# Altium footprint library SignalCommunications.PCBLIB: 466 footprints (part 12 of 30)
Each footprint in its own frame and in the unit in brackets; x right, y up, seen from the top. Pads: shape width x height; smd on the part's side, far side on the other; paste and mask are expansions set on the pad; w line width, h text height; cw(c..) or ccw(c..) is an arc to the next point about the centre after c.
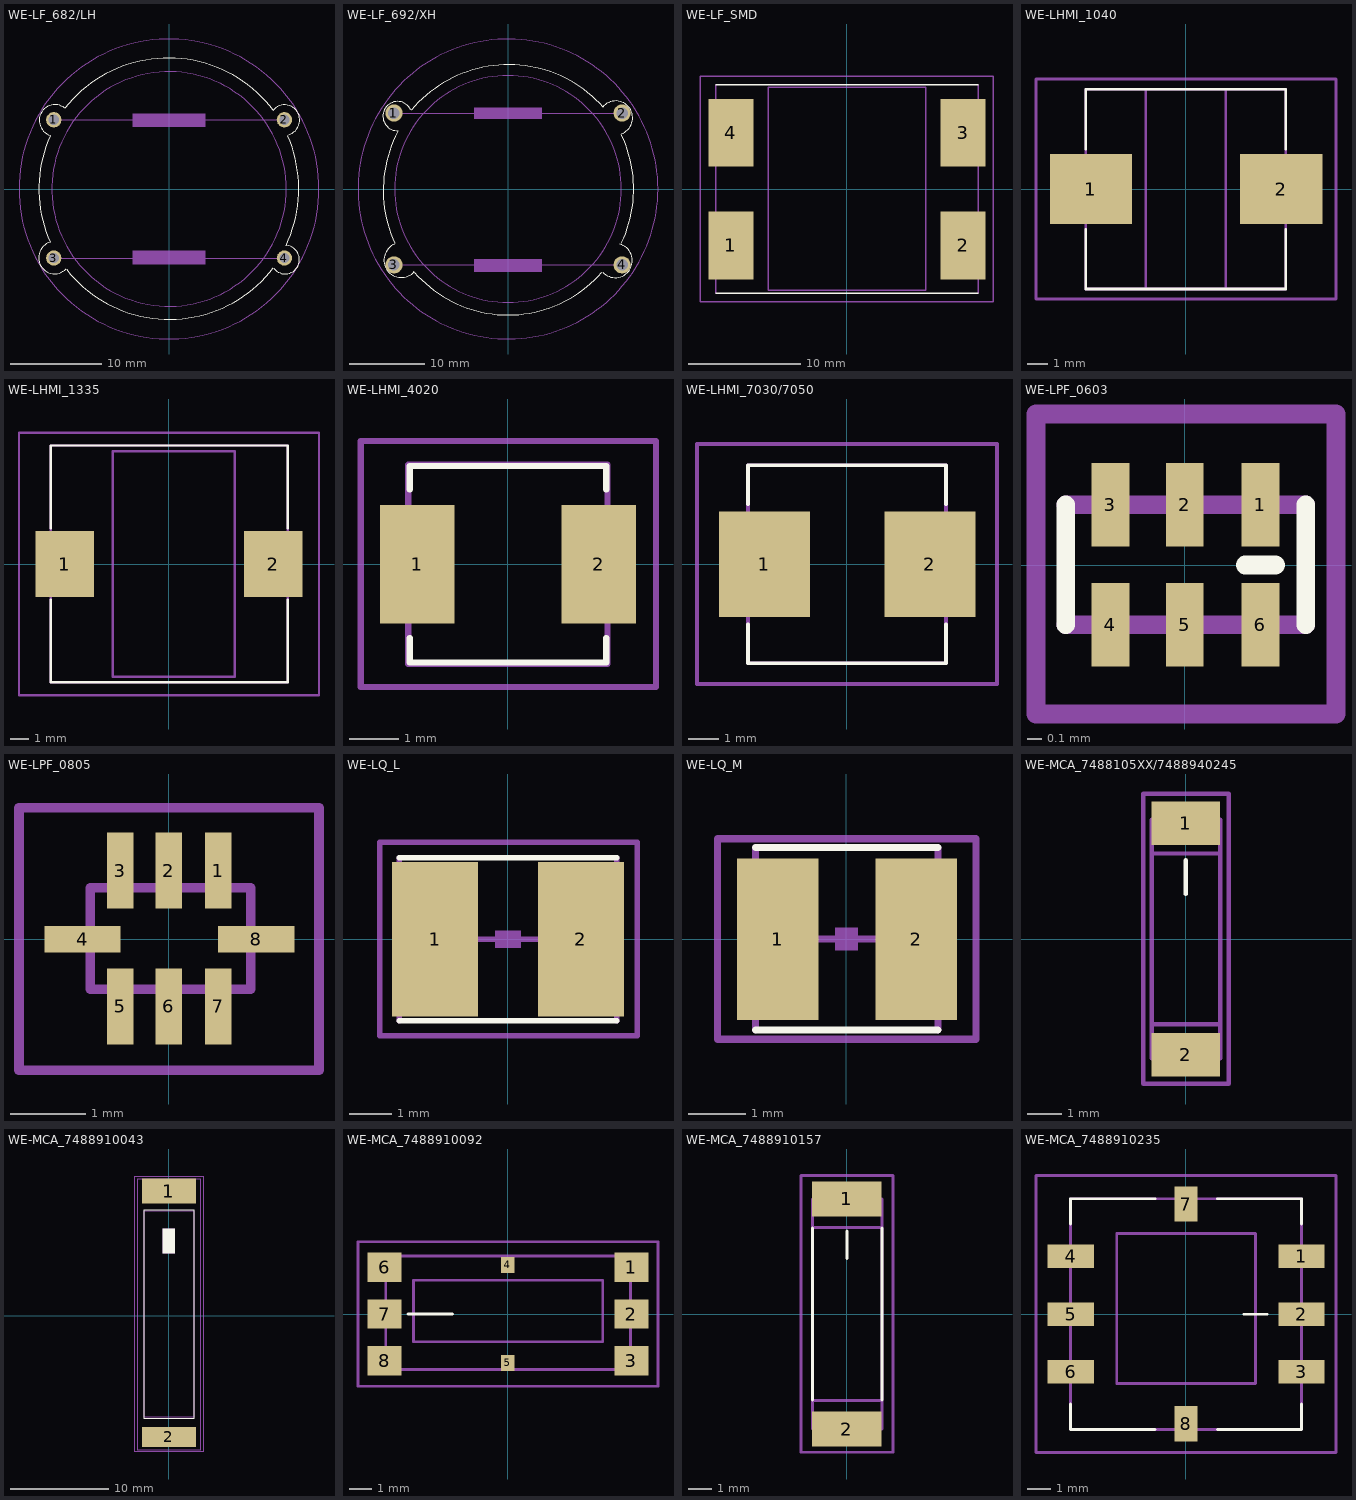
[diagram p11: the footprints below, top view; thin cyan lines are the x and y axes]

## WE-LF_682/LH [mil]
pads (4):
  round 66 hole 44: 1(-496.06,298) 2(497,298) 3(-496.06,-297.24) 4(497,-297.24)
Top Overlay:
  lines w5: -511.81,-228.35 cw(c0.73,0.33) -511.81,229 ; -511.02,-229.13 ccw(c-492.12,-295.76) -442.52,-344.09 ; -511.02,231 cw(c-491,295.68) -448.03,348 ; -448.82,347 cw(c-2.99,-2.66) 449,339 ; -440.94,-346.46 ccw(c1,0.11) 449,-338.58 ; 447,338 cw(c497.73,296.94) 515,234 ; 452,-341.73 ccw(c500.54,-304.28) 507,-243.31 ; 504,-244.09 ccw(c-22.19,1.42) 512,229
Mechanical 10:
  circle w5: c0,0 r505
Mechanical 16:
  rectangle: -157.48,266 158,325
  rectangle: -157.48,-324.8 158,-265.74
  lines w5: -496.06,-297.24 497,-297.24 ; -496.06,298 497,298
Mechanical 27:
  circle w5: c0,0 r646

## WE-LF_692/XH [mil]
pads (4):
  round 90 hole 60: 1(-594.49,396) 2(595,396) 3(-594.49,-395.67) 4(595,-395.67)
Top Overlay:
  lines w5: -590.55,-287.4 ccw(c-557.08,-371.06) -488.19,-429.13 ; -590.55,-283.46 cw(c12.61,-7.8) -574.8,300 ; -570.87,304 cw(c-576.04,380) -507.87,414 ; -503.94,410 cw(c3.4,-11.65) 497,426 ; -488.19,-433.07 ccw(c0.41,-11.46) 489,-433.07 ; 493,-433.07 ccw(c558.81,-373.09) 583,-287.4 ; 493,426 cw(c561.71,371) 591,288 ; 591,-283.46 ccw(c-0.11,0.27) 591,284
Mechanical 10:
  circle w5: c0,0 r591
Mechanical 16:
  rectangle: -177.17,-433.07 178,-364.17
  rectangle: -177.17,365 178,424
  lines w5: -594.49,-395.67 595,-395.67 ; -594.49,396 595,396
Mechanical 27:
  circle w5: c0,0 r782

## WE-LF_SMD [mil]
pads (4):
  rect 158x237 smd: 1(-405.51,-196.85) 2(406,-196.85) 3(406,197) 4(-405.51,197)
Top Overlay:
  lines w5: -458.66,-364.17 459,-364.17 ; -458.66,365 459,365
Mechanical 10:
  lines w5: -275.59,-354.33 -275.59,355 276,355 276,-354.33 -275.59,-354.33
Mechanical 16:
  lines w5: -458.66,-364.17 -458.66,365 ; 459,-364.17 459,365
Mechanical 27:
  lines w5: -511.81,-393.7 -511.81,394 512,394 512,-393.7 -511.81,-393.7

## WE-LHMI_1040 [mil]
pads (2):
  rect 162x138 smd: 1(-187.01,0) 2(188,0)
Top Overlay:
  lines w5: -196.85,-78.74 -196.85,-196.85 197,-196.85 197,-78.74 ; -196.85,79 -196.85,197 197,197 197,79
Mechanical 10:
  lines w5: -78.74,-196.85 -78.74,197 79,197 79,-196.85 -78.74,-196.85
Mechanical 16:
  lines w5: -196.85,-196.85 -196.85,197 197,197 197,-196.85 -196.85,-196.85
Mechanical 27:
  lines w5: -295.28,-216.54 -295.28,217 296,217 296,-216.54 -295.28,-216.54

## WE-LHMI_1335 [mil]
pads (2):
  rect 123x138 smd: 1(-218.5,0) 2(219,0)
Top Overlay:
  lines w5: -248.03,-74.8 -248.03,-248.03 249,-248.03 249,-74.8 ; -248.03,75 -248.03,249 249,249 249,75
Mechanical 10:
  lines w5: -118.11,-236.22 -118.11,237 138,237 138,-236.22 -118.11,-236.22
Mechanical 16:
  lines w5: -248.03,-248.03 -248.03,249 249,249 249,-248.03 -248.03,-248.03
Mechanical 27:
  lines w5: -314.96,-275.59 -314.96,276 315,276 315,-275.59 -314.96,-275.59

## WE-LHMI_4020 [mil]
pads (2):
  rect 60x95 smd: 1(-72.83,0) 2(73,0)
Top Overlay:
  lines w5: -78.74,-59.06 -78.74,-78.74 79,-78.74 79,-59.06 ; -78.74,60 -78.74,79 79,79 79,60
Mechanical 16:
  lines w5: -79.92,-79.92 -79.92,80 80,80 80,-79.92 -79.92,-79.92
Mechanical 27:
  lines w5: -118.11,-98.43 -118.11,99 119,99 119,-98.43 -118.11,-98.43

## WE-LHMI_7030/7050 [mil]
pads (2):
  rect 119x138 smd: 1(-108.27,0) 2(109,0)
Top Overlay:
  lines w5: -129.92,-78.74 -129.92,-129.92 130,-129.92 130,-78.74 ; -129.92,79 -129.92,130 130,130 130,79
Mechanical 16:
  lines w5: -129.92,-129.92 -129.92,130 130,130 130,-129.92 -129.92,-129.92
Mechanical 27:
  lines w5: -196.85,-157.48 -196.85,158 197,158 197,-157.48 -196.85,-157.48

## WE-LPF_0603 [mil]
pads (6):
  rect 10x22 smd: 1(20,16) 2(0,16) 3(-19.68,16) 4(-19.68,-15.75) 5(0,-15.75) 6(20,-15.75)
Top Overlay:
  lines w5: -31.5,-15.75 -31.5,16 ; 16,0 24,0 ; 32,-15.75 32,16
Mechanical 16:
  lines w5: -31.5,-15.75 32,-15.75 ; -31.5,16 32,16
Mechanical 27:
  lines w5: -39.37,-39.37 -39.37,40 40,40 40,-39.37 -39.37,-39.37

## WE-LPF_0805 [mil]
pads (8):
  rect 14x40 smd: 1(26,36) 2(0,36) 3(-25.59,36) 5(-25.59,-35.43) 6(0,-35.43) 7(26,-35.43)
  rect 40x14 smd: 4(-45.28,0) 8(46,0)
Mechanical 16:
  lines w5: -41.34,-26.38 -41.34,27 43,27 43,-26.38 -41.34,-26.38
Mechanical 27:
  lines w5: -78.74,-68.9 -78.74,69 79,69 79,-68.9 -78.74,-68.9

## WE-LQ_L [mil]
pads (2):
  rect 79x142 smd: 1(-66.93,0) 2(67,0)
Top Overlay:
  lines w5: -100,-75 100,-75 ; -100,75 100,75
Mechanical 16:
  rectangle: -11.81,-7.87 12,8
  lines w5: -100,-75 -100,75 ; -66.93,0 67,0 ; 100,-75 100,75
Mechanical 27:
  lines w5: -118.11,-88.58 -118.11,89 119,89 119,-88.58 -118.11,-88.58

## WE-LQ_M [mil]
pads (2):
  rect 56x111 smd: 1(-47.24,0) 2(48,0)
Top Overlay:
  lines w5: -62.5,-62.5 63,-62.5 ; -62.5,63 63,63
Mechanical 16:
  rectangle: -7.87,-7.87 8,8
  lines w5: -62.5,-62.5 -62.5,63 ; -47.24,0 48,0 ; 63,-62.5 63,63
Mechanical 27:
  lines w5: -88.58,-68.9 -88.58,69 89,69 89,-68.9 -88.58,-68.9

## WE-MCA_7488105XX/7488940245 [mil]
pads (2):
  rect 79x50 smd: 1(0,134) 2(0,-133.86)
Top Overlay:
  lines w5: 0,52 0,91
Mechanical 10:
  lines w5: -39.37,-98.43 -39.37,99 40,99 40,-98.43 -39.37,-98.43
Mechanical 16:
  lines w5: -39.37,-137.8 40,-137.8 40,138 -39.37,138 -39.37,-137.8
Mechanical 27:
  lines w5: -49.21,-167.32 -49.21,168 50,168 50,-167.32 -49.21,-167.32

## WE-MCA_7488910043 [mil]
pads (2):
  rect 217x99 smd: 1(0,500)
  rect 217x79 smd: 2(0,-484.25)
Top Overlay:
  rectangle: -25,250 25,350
  lines w5: -100,-412.5 -100,425 100,425 100,-412.5 -100,-412.5
Mechanical 10:
  lines w5: -98.43,-405.51 99,-405.51 99,422 -98.43,422 -98.43,-405.51
Mechanical 16:
  rectangle: -25,250 25,350
  lines w5: -125,-537.5 125,-537.5 125,550 -125,550 -125,-537.5
Mechanical 27:
  lines w5: -137.8,-543.31 138,-543.31 138,560 -137.8,560 -137.8,-543.31

## WE-MCA_7488910092 [mil]
pads (8):
  rect 60x52 smd: 1(219,83) 2(219,0) 3(219,-82.68) 6(-218.5,83) 7(-218.5,0) 8(-218.5,-82.68)
  rect 24x28 smd: 4(0,87) 5(0,-86.61)
Top Overlay:
  lines w5: -177.17,0 -98.43,0
Mechanical 10:
  lines w5: -167.32,-49.21 -167.32,60 168,60 168,-49.21 -167.32,-49.21
Mechanical 16:
  lines w5: -216.54,-98.43 217,-98.43 217,103 -216.54,103 -216.54,-94.49
Mechanical 27:
  lines w5: -265.75,-127.95 -265.75,128 266,128 266,-127.95 -265.75,-127.95

## WE-MCA_7488910157 [mil]
pads (2):
  rect 119x60 smd: 1(0,197) 2(0,-196.85)
Top Overlay:
  lines w5: -59.06,-146.85 -59.06,147 ; 0,95 0,142 ; 60,-146.85 60,147
Mechanical 10:
  lines w5: -59.06,-147.64 -59.06,148 60,148 60,-147.64 -59.06,-147.64
Mechanical 16:
  lines w5: -59.06,-196.85 60,-196.85 60,197 -59.06,197 -59.06,-196.85
Mechanical 27:
  lines w5: -78.74,-236.22 -78.74,237 79,237 79,-236.22 -78.74,-236.22

## WE-MCA_7488910235 [mil]
pads (8):
  rect 79x40 smd: 1(197,99) 2(197,0) 3(197,-98.43) 4(-196.85,99) 5(-196.85,0) 6(-196.85,-98.43)
  rect 40x60 smd: 7(0,188) 8(0,-187.01)
Top Overlay:
  lines w5: -196.85,-153.15 -196.85,-196.85 -53.15,-196.85 ; -196.85,154 -196.85,197 -53.15,197 ; 54,-196.85 197,-196.85 197,-153.15 ; 54,197 197,197 197,154 ; 99,0 138,0
Mechanical 10:
  lines w5: -118.11,-118.11 -118.11,138 119,138 119,-118.11 -118.11,-118.11
Mechanical 16:
  lines w5: -196.85,-196.85 197,-196.85 197,197 -196.85,197 -196.85,-196.85
Mechanical 27:
  lines w5: -255.91,-236.22 -255.91,237 256,237 256,-236.22 -255.91,-236.22